# EAGLE library part BQ21040 (library poi)
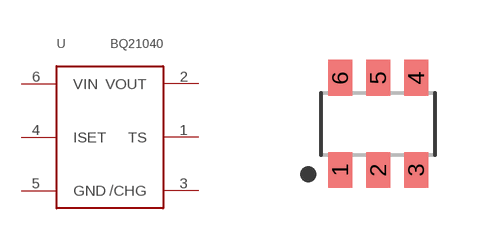
[diagram p2: symbol with the pads of SOT23-6; footprint SOT23-6]

Designator prefix -

## BQ21040 (MF: TEXAS INSTRUMENTS; MPN: BQ21040DBVT; OC_FARNELL: 2576287)  [SOT23-6]
1  TS  in
2  VOUT  pwr
3  /CHG  out
4  ISET  in
5  GND  pwr
6  VIN  pwr

## Footprint SOT23-6 (pad centres in mm)
Small Outline Transistor 6 lead
smd 0.6 x 0.9: 1 -0.95,-1.15; 2 0,-1.15; 3 0.95,-1.15; 4 0.95,1.15; 5 0,1.15; 6 -0.95,1.15